# EAGLE library part STM32WLE5J8I6 (library STM32WLE5J8I6)
Module 802.11 960MHz 600Kbps 73-Pin UFBGA Tray Source: Datasheet
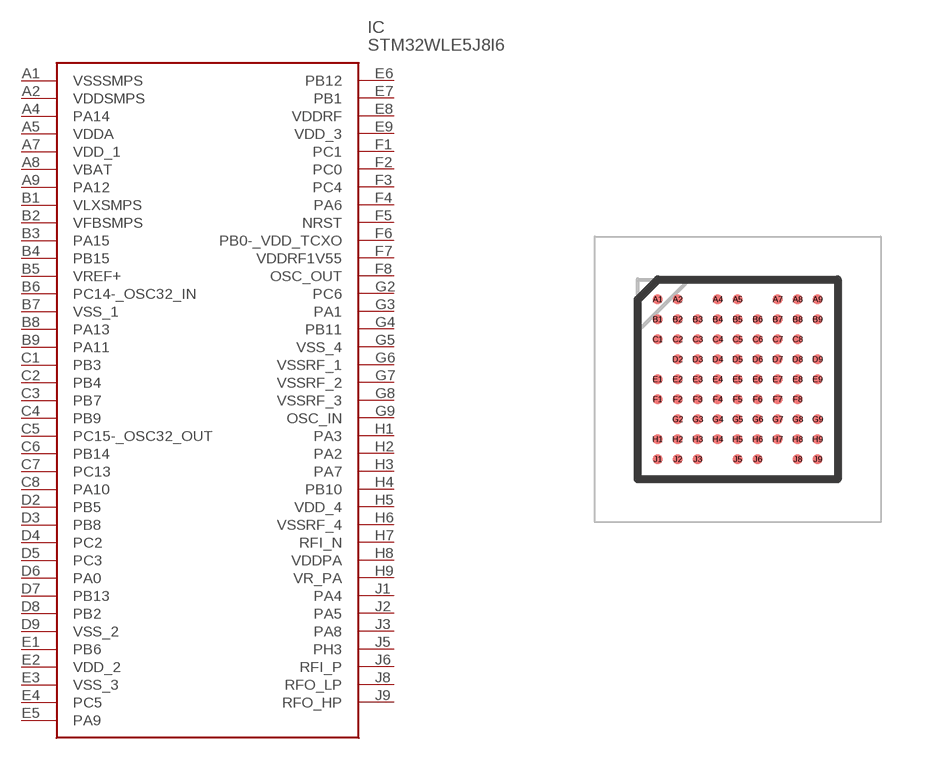
[diagram p0: symbol with the pads of BGA73C50P9X9_500X500X60; footprint BGA73C50P9X9_500X500X60]

Designator prefix IC

## STM32WLE5J8I6 (DESCRIPTION: Module 802.11 960MHz 600Kbps 73-Pin UFBGA Tray; HEIGHT: 0.6mm; MANUFACTURER_NAME: STMicroelectronics; MANUFACTURER_PART_NUMBER: STM32WLE5J8I6; MOUSER_PART_NUMBER: 511-STM32WLE5J8I6; MOUSER_PRICE-STOCK: https://www.mouser.co.uk/ProductDetail/STMicroelectronics/STM32WLE5J8I6?qs=xZ%2FP%252Ba9zWqbF3zyCbLfBLA%3D%3D)  [BGA73C50P9X9_500X500X60]
A1  VSSSMPS
A2  VDDSMPS
A4  PA14
A5  VDDA
A7  VDD_1
A8  VBAT
A9  PA12
B1  VLXSMPS
B2  VFBSMPS
B3  PA15
B4  PB15
B5  VREF+
B6  PC14-_OSC32_IN
B7  VSS_1
B8  PA13
B9  PA11
C1  PB3
C2  PB4
C3  PB7
C4  PB9
C5  PC15-_OSC32_OUT
C6  PB14
C7  PC13
C8  PA10
D2  PB5
D3  PB8
D4  PC2
D5  PC3
D6  PA0
D7  PB13
D8  PB2
D9  VSS_2
E1  PB6
E2  VDD_2
E3  VSS_3
E4  PC5
E5  PA9
E6  PB12
E7  PB1
E8  VDDRF
E9  VDD_3
F1  PC1
F2  PC0
F3  PC4
F4  PA6
F5  NRST
F6  PB0-_VDD_TCXO
F7  VDDRF1V55
F8  OSC_OUT
G2  PC6
G3  PA1
G4  PB11
G5  VSS_4
G6  VSSRF_1
G7  VSSRF_2
G8  VSSRF_3
G9  OSC_IN
H1  PA3
H2  PA2
H3  PA7
H4  PB10
H5  VDD_4
H6  VSSRF_4
H7  RFI_N
H8  VDDPA
H9  VR_PA
J1  PA4
J2  PA5
J3  PA8
J5  PH3
J6  RFI_P
J8  RFO_LP
J9  RFO_HP

## Footprint BGA73C50P9X9_500X500X60 (pad centres in mm)
UFBGA73
smd 0.232 x 0.232: A1 -2,2; A2 -1.5,2; A4 -0.5,2; A5 0,2; A7 1,2; A8 1.5,2; A9 2,2; B1 -2,1.5; B2 -1.5,1.5; B3 -1,1.5; B4 -0.5,1.5; B5 0,1.5; B6 0.5,1.5; B7 1,1.5; B8 1.5,1.5; B9 2,1.5; C1 -2,1; C2 -1.5,1; C3 -1,1; C4 -0.5,1; C5 0,1; C6 0.5,1; C7 1,1; C8 1.5,1; D2 -1.5,0.5; D3 -1,0.5; D4 -0.5,0.5; D5 0,0.5; D6 0.5,0.5; D7 1,0.5; D8 1.5,0.5; D9 2,0.5; E1 -2,0; E2 -1.5,0; E3 -1,0; E4 -0.5,0; E5 0,0; E6 0.5,0; E7 1,0; E8 1.5,0; E9 2,0; F1 -2,-0.5; F2 -1.5,-0.5; F3 -1,-0.5; F4 -0.5,-0.5; F5 0,-0.5; F6 0.5,-0.5; F7 1,-0.5; F8 1.5,-0.5; G2 -1.5,-1; G3 -1,-1; G4 -0.5,-1; G5 0,-1; G6 0.5,-1; G7 1,-1; G8 1.5,-1; G9 2,-1; H1 -2,-1.5; H2 -1.5,-1.5; H3 -1,-1.5; H4 -0.5,-1.5; H5 0,-1.5; H6 0.5,-1.5; H7 1,-1.5; H8 1.5,-1.5; H9 2,-1.5; J1 -2,-2; J2 -1.5,-2; J3 -1,-2; J5 0,-2; J6 0.5,-2; J8 1.5,-2; J9 2,-2